# EAGLE library part TC55V16256FT (library xess)
Toshiba 256Kx16 async SRAM
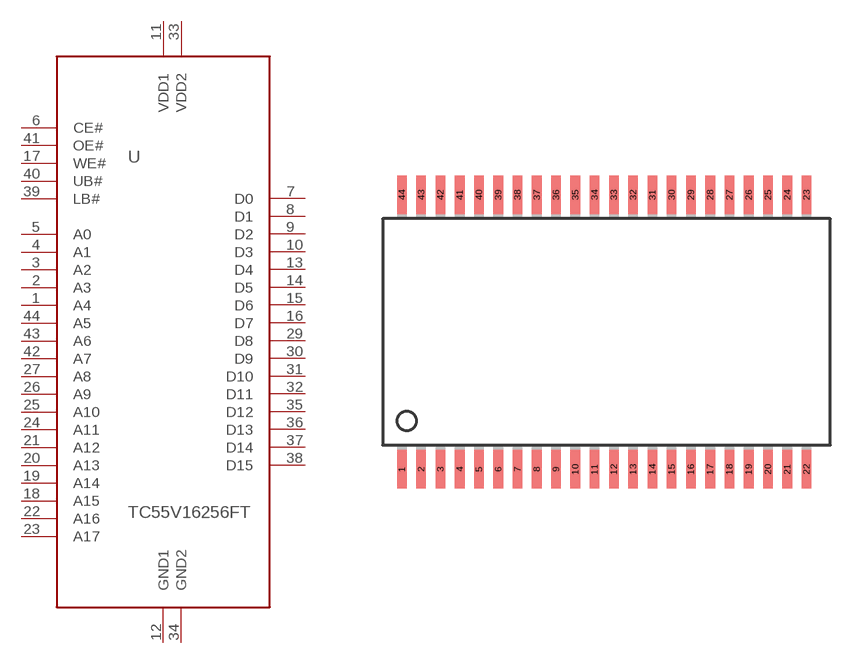
[diagram p24: symbol with the pads of TSOP44; footprint TSOP44]

Designator prefix U

## TC55V16256FT  [TSOP44]
1  A4  in
2  A3  in
3  A2  in
4  A1  in
5  A0  in
6  CE#  in
7  D0
8  D1
9  D2
10  D3
11  VDD1  pwr
12  GND1  pwr
13  D4
14  D5
15  D6
16  D7
17  WE#  in
18  A15  in
19  A14  in
20  A13  in
21  A12  in
22  A16  in
23  A17  in
24  A11  in
25  A10  in
26  A9  in
27  A8  in
29  D8
30  D9
31  D10
32  D11
33  VDD2  pwr
34  GND2  pwr
35  D12
36  D13
37  D14
38  D15
39  LB#  in
40  UB#  in
41  OE#  in
42  A7  in
43  A6  in
44  A5  in

## Footprint TSOP44 (pad centres in mm)
smd 0.4 x 1.6: 1 -7.86,-5.8; 2 -7.06,-5.8; 3 -6.26,-5.8; 4 -5.46,-5.8; 5 -4.66,-5.8; 6 -3.86,-5.8; 7 -3.06,-5.8; 8 -2.26,-5.8; 9 -1.46,-5.8; 10 -0.66,-5.8; 11 0.14,-5.8; 12 0.94,-5.8; 13 1.74,-5.8; 14 2.54,-5.8; 15 3.34,-5.8; 16 4.14,-5.8; 17 4.94,-5.8; 18 5.74,-5.8; 19 6.54,-5.8; 20 7.34,-5.8; 21 8.14,-5.8; 22 8.94,-5.8; 23 8.94,5.6; 24 8.14,5.6; 25 7.34,5.6; 26 6.54,5.6; 27 5.74,5.6; 28 4.94,5.6; 29 4.14,5.6; 30 3.34,5.6; 31 2.54,5.6; 32 1.74,5.6; 33 0.94,5.6; 34 0.14,5.6; 35 -0.66,5.6; 36 -1.46,5.6; 37 -2.26,5.6; 38 -3.06,5.6; 39 -3.86,5.6; 40 -4.66,5.6; 41 -5.46,5.6; 42 -6.26,5.6; 43 -7.06,5.6; 44 -7.86,5.6